# Altium integrated library Microchip Power Mgt Hot Swap.IntLib: 2 symbols
Pins are listed as number, name and electrical type; pins without a type are passive.

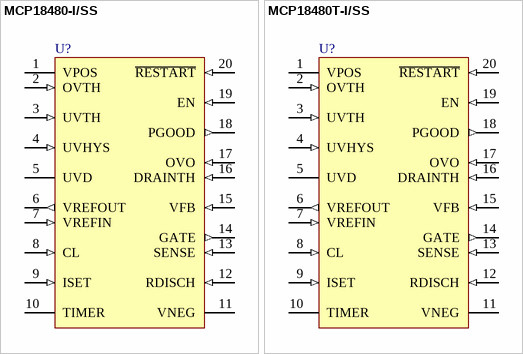
[diagram p0: symbols MCP18480-I/SS to MCP18480T-I/SS]

## MCP18480-I/SS
designator U?
Hot Swap Controller, -48V , 20-Pin SSOP 208mil, Industrial Temperature; Published: 29-Jan-2009; DatasheetVersion: revB, Apr-2003; PackageVersion: revAW, Oct-2008; PackageReference: SSOP-SS20; Publisher: Altium Limited; PackageDescription: 20-Lead Plastic Shrink Small Outline (SS) - 5.3mm Body [SSOP]; Code_JEDEC: MO-150; Code_IPC: SOP65P780-20; ComponentLink1Description: Manufacturer Link; ComponentLink1URL: http://www.microchip.com; ComponentLink2Description: Datasheet; ComponentLink2URL: http://ww1.microchip.com/downloads/en/DeviceDoc/20091b.pdf; ComponentLink3Description: Packaging Specification; ComponentLink3URL: http://ww1.microchip.com/downloads/en/PackagingSpec/00049AW.pdf
footprint SSOP-SS20_N (SOP, 20-Leads, Body 7.2x5.2mm, Pitch 0.65mm, IPC Medium Density)
footprint SSOP-SS20_L (SOP, 20-Leads, Body 7.2x5.2mm, Pitch 0.65mm, IPC High Density)
footprint SSOP-SS20_M (SOP, 20-Leads, Body 7.2x5.2mm, Pitch 0.65mm, IPC Low Density)
pins: 1 VPOS (power), 2 OVTH (in), 3 UVTH (in), 4 UVHYS (in), 5 UVD, 6 VREFOUT (out), 7 VREFIN (in), 8 CL (in), 9 ISET (in), 10 TIMER, 11 VNEG (power), 12 RDISCH (in), 13 SENSE (in), 14 GATE (out), 15 VFB (in), 16 DRAINTH (in), 17 OVO (in), 18 PGOOD (out), 19 EN (in), 20 ~{RESTART} (in)

## MCP18480T-I/SS
designator U?
Hot Swap Controller, -48V , 20-Pin SSOP 208mil, Industrial Temperature, Tape and Reel; Published: 29-Jan-2009; DatasheetVersion: revB, Apr-2003; PackageVersion: revAW, Oct-2008; PackageReference: SSOP-SS20; Publisher: Altium Limited; PackageDescription: 20-Lead Plastic Shrink Small Outline (SS) - 5.3mm Body [SSOP]; Code_JEDEC: MO-150; Code_IPC: SOP65P780-20; ComponentLink1Description: Manufacturer Link; ComponentLink1URL: http://www.microchip.com; ComponentLink2Description: Datasheet; ComponentLink2URL: http://ww1.microchip.com/downloads/en/DeviceDoc/20091b.pdf; ComponentLink3Description: Packaging Specification; ComponentLink3URL: http://ww1.microchip.com/downloads/en/PackagingSpec/00049AW.pdf
footprint SSOP-SS20_N (SOP, 20-Leads, Body 7.2x5.2mm, Pitch 0.65mm, IPC Medium Density)
footprint SSOP-SS20_L (SOP, 20-Leads, Body 7.2x5.2mm, Pitch 0.65mm, IPC High Density)
footprint SSOP-SS20_M (SOP, 20-Leads, Body 7.2x5.2mm, Pitch 0.65mm, IPC Low Density)
pins: 1 VPOS (power), 2 OVTH (in), 3 UVTH (in), 4 UVHYS (in), 5 UVD, 6 VREFOUT (out), 7 VREFIN (in), 8 CL (in), 9 ISET (in), 10 TIMER, 11 VNEG (power), 12 RDISCH (in), 13 SENSE (in), 14 GATE (out), 15 VFB (in), 16 DRAINTH (in), 17 OVO (in), 18 PGOOD (out), 19 EN (in), 20 ~{RESTART} (in)